# EAGLE library part 623350235521 (library Board_to_Board_Connectors_rev15d)
WR-PHD 1.27mm Dual SMT Pin Header H=1.80mm, 50 Pins=>Code : Con_BTB_PHD_1.27_2_623350235521 <http://katalog.we-online.de/media/thumbs2/eican/thb_Con_BTB_PHD_1.27_2_6233xx235521_pf2.jpg> Details see: http://katalog.we-online.de/en/em/623_3xx_235_521 Created 2014-06-04, Karrer Zheng 2014 (C) Würth Elektronik
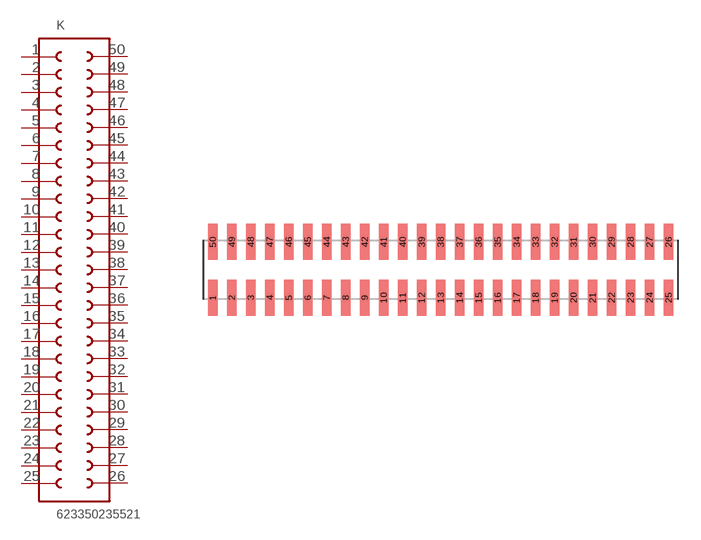
[diagram p298: symbol with the pads of 623350235521; footprint 623350235521]

Designator prefix K

## 623350235521  [623350235521]
1  1  pas
2  2  pas
3  3  pas
4  4  pas
5  5  pas
6  6  pas
7  7  pas
8  8  pas
9  9  pas
10  10  pas
11  11  pas
12  12  pas
13  13  pas
14  14  pas
15  15  pas
16  16  pas
17  17  pas
18  18  pas
19  19  pas
20  20  pas
21  21  pas
22  22  pas
23  23  pas
24  24  pas
25  25  pas
26  26  pas
27  27  pas
28  28  pas
29  29  pas
30  30  pas
31  31  pas
32  32  pas
33  33  pas
34  34  pas
35  35  pas
36  36  pas
37  37  pas
38  38  pas
39  39  pas
40  40  pas
41  41  pas
42  42  pas
43  43  pas
44  44  pas
45  45  pas
46  46  pas
47  47  pas
48  48  pas
49  49  pas
50  50  pas

## Footprint 623350235521 (pad centres in mm)
WR-PHD 1.27mm Dual SMT Pin Header H=1.80mm, 50 Pins
smd 0.63 x 2.4: 1 -15.24,-1.86; 2 -13.97,-1.86; 3 -12.7,-1.86; 4 -11.43,-1.86; 5 -10.16,-1.86; 6 -8.89,-1.86; 7 -7.62,-1.86; 8 -6.35,-1.86; 9 -5.08,-1.86; 10 -3.81,-1.86; 11 -2.54,-1.86; 12 -1.27,-1.86; 13 0,-1.86; 14 1.27,-1.86; 15 2.54,-1.86; 16 3.81,-1.86; 17 5.08,-1.86; 18 6.35,-1.86; 19 7.62,-1.86; 20 8.89,-1.86; 21 10.16,-1.86; 22 11.43,-1.86; 23 12.7,-1.86; 24 13.97,-1.86; 25 15.24,-1.86; 26 15.24,1.86; 27 13.97,1.86; 28 12.7,1.86; 29 11.43,1.86; 30 10.16,1.86; 31 8.89,1.86; 32 7.62,1.86; 33 6.35,1.86; 34 5.08,1.86; 35 3.81,1.86; 36 2.54,1.86; 37 1.27,1.86; 38 0,1.86; 39 -1.27,1.86; 40 -2.54,1.86; 41 -3.81,1.86; 42 -5.08,1.86; 43 -6.35,1.86; 44 -7.62,1.86; 45 -8.89,1.86; 46 -10.16,1.86; 47 -11.43,1.86; 48 -12.7,1.86; 49 -13.97,1.86; 50 -15.24,1.86